# Altium schematic symbol library M20-8890345.SchLib: 1 symbol
Pins are listed as number, name and electrical type; pins without a type are passive.

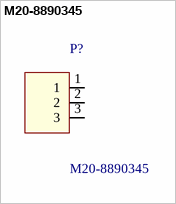
[diagram p0: symbol M20-8890345]

## M20-8890345
designator P?
CONN HEADER SMD R/A 3POS 2.54MM / Manufacturer PN: M20-8890345; MF: Samtec Inc.; MP: TSM-103-01-T-SH; SnapEDA_Link: https://www.snapeda.com/parts/TSM-103-01-T-SH/Samtec%20Inc./view-part/?ref=snap; Package: None; Digi-Key_Purchase_URL: https://www.digikey.com/product-detail/en/samtec-inc/TSM-103-01-T-SH/SAM10790-ND/2685568?utm_source=snapeda&utm_medium=aggregator&utm_campaign=symbol; Digi-Key_Part_Number: SAM10790-ND; Value: *
footprint M20-8890345
pins: 1, 2, 3